# EAGLE library part BMA490L (library SamacSys_Parts)
Accelerometers High-performance longevity acceleration sensor Source: Datasheet <https://www.mouser.es/datasheet/2/783/bst-bma490l-ds000-1878796.pdf>
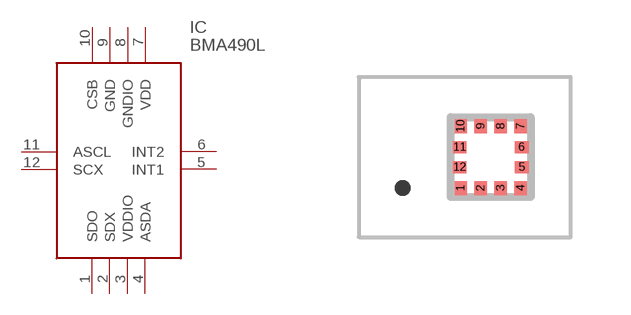
[diagram p1: symbol with the pads of BMA490L; footprint BMA490L]

Designator prefix IC

## BMA490L (Description: Accelerometers High-performance longevity acceleration sensor; Height: 1mm; Manufacturer_Name: Bosch Sensortec; Manufacturer_Part_Number: BMA490L; Mouser_Part_Number: 262-BMA490L; Mouser_Price-Stock: https://www.mouser.co.uk/ProductDetail/Bosch-Sensortec/BMA490L?qs=7MVldsJ5UawjTpioRTbJPQ%3D%3D)  [BMA490L]
1  SDO
2  SDX
3  VDDIO
4  ASDA
5  INT1
6  INT2
7  VDD
8  GNDIO
9  GND
10  CSB
11  ASCL
12  SCX

## Footprint BMA490L (pad centres in mm)
BMA490L-1
smd 0.3 x 0.35: 1 -0.75,-0.775; 2 -0.25,-0.775; 3 0.25,-0.775; 4 0.75,-0.775; 7 0.75,0.775; 8 0.25,0.775; 9 -0.25,0.775; 10 -0.75,0.775
smd 0.35 x 0.3: 5 0.775,-0.25; 6 0.775,0.25; 11 -0.775,0.25; 12 -0.775,-0.25